# EAGLE library part 0532610671 (library picoblade6)
1.25mm Pitch PicoBlade™ Header, Surface Mount, Right Angle, 6 Circuits
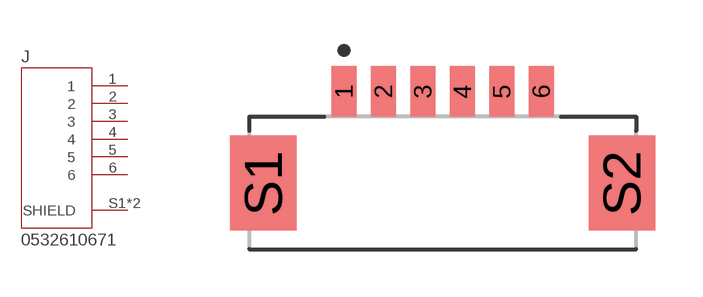
[diagram p0: symbol with the pads of MOLEX_0532610671; footprint MOLEX_0532610671]

Designator prefix J

## 0532610671 (Description: Picoblade Connector, 6 Circuit Single Row, Right Angle Surface Mount SMT PCB; Digi-Key_Part_Number: WM7624CT-ND; Digi-Key_Purchase_URL: https://www.digikey.com/product-detail/en/molex/0532610671/WM7624CT-ND/699111?utm_source=snapeda&utm_medium=aggregator&utm_campaign=symbol; MF: Molex; MP: 0532610671; Package: None)  [MOLEX_0532610671]
1  1  pas
2  2  pas
3  3  pas
4  4  pas
5  5  pas
6  6  pas
S1  SHIELD  pas
S2  SHIELD  pas

## Footprint MOLEX_0532610671 (pad centres in mm)
smd 0.8 x 1.6: 1 -3.125,0; 2 -1.875,0; 3 -0.625,0; 4 0.625,0; 5 1.875,0; 6 3.125,0
smd 2.1 x 3: S1 -5.675,-2.9; S2 5.675,-2.9